# EAGLE library part BQ21062YFPR (library BQ21062YFPR)
Battery Management 500-mA 1-cell linear charger with 10-nA ship mode, power-path, regulated system voltage and LDO Source: Datasheet <https://www.ti.com/lit/ds/symlink/bq21062.pdf?ts=1601517026729&ref_url=https%3A%2F%2Fwww.mouser.jp%2F>
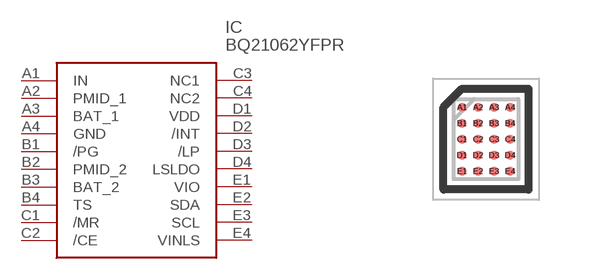
[diagram p0: symbol with the pads of BGA20C40P4X5_162X202X50; footprint BGA20C40P4X5_162X202X50]

Designator prefix IC

## BQ21062YFPR (Arrow_Part_Number: BQ21062YFPR; Arrow_Price-Stock: https://www.arrow.com/en/products/bq21062yfpr/texas-instruments?utm_currency=USD&region=nac; Description: Battery Management 500-mA 1-cell linear charger with 10-nA ship mode, power-path, regulated system voltage and LDO; Height: 0.5mm; Manufacturer_Name: Texas Instruments; Manufacturer_Part_Number: BQ21062YFPR; Mouser_Part_Number: 595-BQ21062YFPR; Mouser_Price-Stock: https://www.mouser.co.uk/ProductDetail/Texas-Instruments/BQ21062YFPR?qs=yqaQSyyJnNgXcFMWqkWYMA%3D%3D)  [BGA20C40P4X5_162X202X50]
A1  IN
A2  PMID_1
A3  BAT_1
A4  GND
B1  /PG
B2  PMID_2
B3  BAT_2
B4  TS
C1  /MR
C2  /CE
C3  NC1
C4  NC2
D1  VDD
D2  /INT
D3  /LP
D4  LSLDO
E1  VIO
E2  SDA
E3  SCL
E4  VINLS

## Footprint BGA20C40P4X5_162X202X50 (pad centres in mm)
BQ21062YFPR
smd 0.226 x 0.226: A1 -0.6,0.8; A2 -0.2,0.8; A3 0.2,0.8; A4 0.6,0.8; B1 -0.6,0.4; B2 -0.2,0.4; B3 0.2,0.4; B4 0.6,0.4; C1 -0.6,0; C2 -0.2,0; C3 0.2,0; C4 0.6,0; D1 -0.6,-0.4; D2 -0.2,-0.4; D3 0.2,-0.4; D4 0.6,-0.4; E1 -0.6,-0.8; E2 -0.2,-0.8; E3 0.2,-0.8; E4 0.6,-0.8